# EAGLE library part MICRO_FIT_3.0_8POS_RA (library UBCSolar)
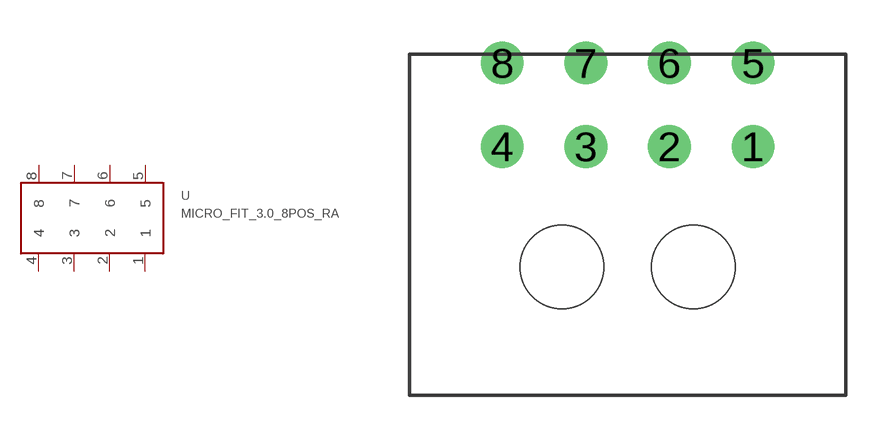
[diagram p5: symbol with the pads of MICRO_FIT_3.0_8POS_RA; footprint MICRO_FIT_3.0_8POS_RA]

Designator prefix -

## MICRO_FIT_3.0_8POS_RA  [MICRO_FIT_3.0_8POS_RA]
1  1
2  2
3  3
4  4
5  5
6  6
7  7
8  8

## Footprint MICRO_FIT_3.0_8POS_RA (pad centres in mm)
Micro-Fit 3.0 8pos, right angle: https://www.digikey.ca/product-detail/en/molex/0430450800/WM1816-ND/252529
drill 1.02: 1 4.5,-1.5; 2 1.5,-1.5; 3 -1.5,-1.5; 4 -4.5,-1.5; 5 4.5,1.5; 6 1.5,1.5; 7 -1.5,1.5; 8 -4.5,1.5
hole 3 at -2.35,-5.82
hole 3 at 2.35,-5.82